# Altium footprint library Diod.PcbLib: 392 footprints (part 8 of 25)
Each footprint in its own frame and in the unit in brackets; x right, y up, seen from the top. Pads: shape width x height; smd on the part's side, far side on the other; paste and mask are expansions set on the pad; w line width, h text height; cw(c..) or ccw(c..) is an arc to the next point about the centre after c.
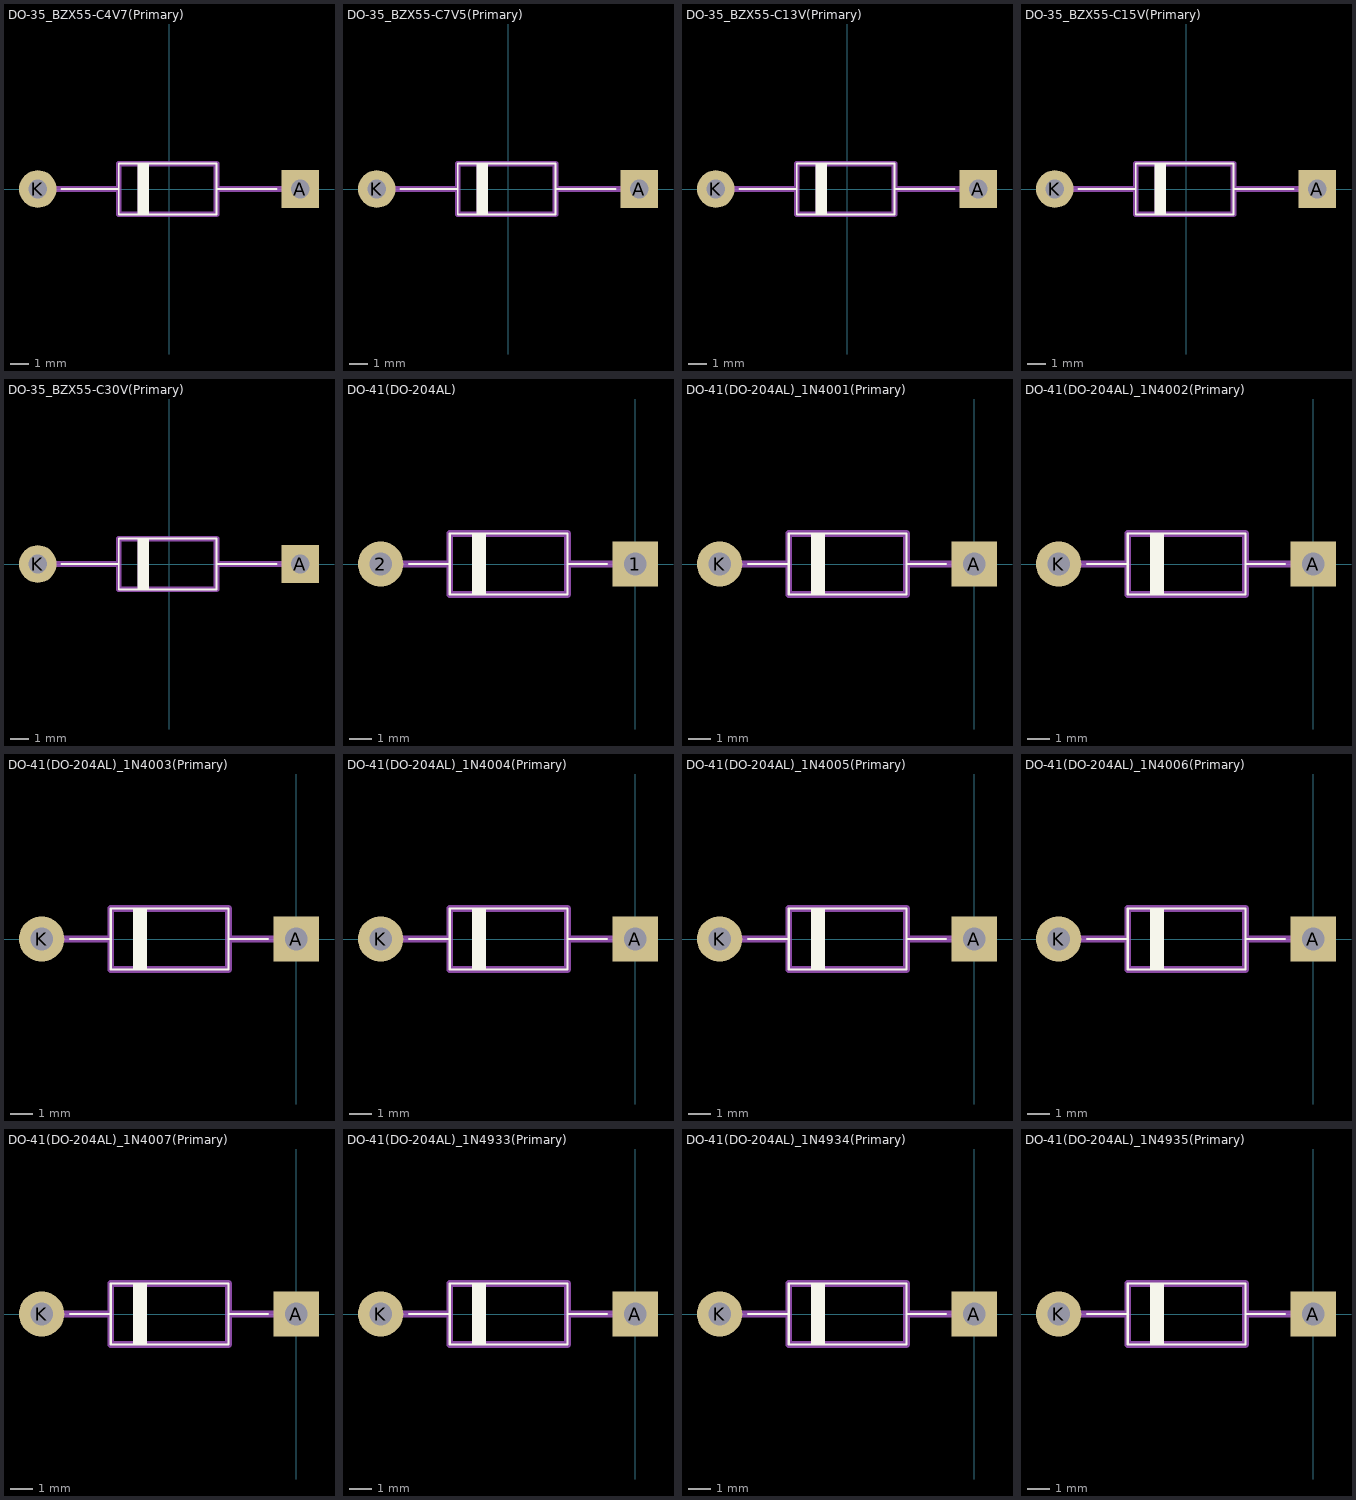
[diagram p7: the footprints below, top view; thin cyan lines are the x and y axes]

## DO-35_BZX55-C4V7(Primary) [mm]
pads (2):
  rect 2x2 hole 1: A(6.985,0)
  round 2 hole 1: K(-6.985,0)
Top Overlay:
  region: -1.675,-1.35 -1.075,-1.35 -1.075,1.35 -1.675,1.35
  lines w0.1: -5.715,0 -2.675,0 ; 5.715,0 2.525,0 ; -2.675,0 -2.675,-1.35 2.525,-1.35 2.525,0 ; -2.675,0 -2.675,1.35 2.525,1.35 2.525,0
Mechanical 1:
  region: -1.675,-1.35 -1.075,-1.35 -1.075,1.35 -1.675,1.35
  lines w0.3: -6.985,0 -2.675,0 ; 6.985,0 2.525,0 ; -2.675,0 -2.675,-1.35 2.525,-1.35 2.525,0 ; -2.675,0 -2.675,1.35 2.525,1.35 2.525,0

## DO-35_BZX55-C7V5(Primary) [mm]
pads (2):
  rect 2x2 hole 1: A(6.985,0)
  round 2 hole 1: K(-6.985,0)
Top Overlay:
  region: -1.675,-1.35 -1.075,-1.35 -1.075,1.35 -1.675,1.35
  lines w0.1: -5.715,0 -2.675,0 ; 5.715,0 2.525,0 ; -2.675,0 -2.675,-1.35 2.525,-1.35 2.525,0 ; -2.675,0 -2.675,1.35 2.525,1.35 2.525,0
Mechanical 1:
  region: -1.675,-1.35 -1.075,-1.35 -1.075,1.35 -1.675,1.35
  lines w0.3: -6.985,0 -2.675,0 ; 6.985,0 2.525,0 ; -2.675,0 -2.675,-1.35 2.525,-1.35 2.525,0 ; -2.675,0 -2.675,1.35 2.525,1.35 2.525,0

## DO-35_BZX55-C13V(Primary) [mm]
pads (2):
  rect 2x2 hole 1: A(6.985,0)
  round 2 hole 1: K(-6.985,0)
Top Overlay:
  region: -1.675,-1.35 -1.075,-1.35 -1.075,1.35 -1.675,1.35
  lines w0.1: -5.715,0 -2.675,0 ; 5.715,0 2.525,0 ; -2.675,0 -2.675,-1.35 2.525,-1.35 2.525,0 ; -2.675,0 -2.675,1.35 2.525,1.35 2.525,0
Mechanical 1:
  region: -1.675,-1.35 -1.075,-1.35 -1.075,1.35 -1.675,1.35
  lines w0.3: -6.985,0 -2.675,0 ; 6.985,0 2.525,0 ; -2.675,0 -2.675,-1.35 2.525,-1.35 2.525,0 ; -2.675,0 -2.675,1.35 2.525,1.35 2.525,0

## DO-35_BZX55-C15V(Primary) [mm]
pads (2):
  rect 2x2 hole 1: A(6.985,0)
  round 2 hole 1: K(-6.985,0)
Top Overlay:
  region: -1.675,-1.35 -1.075,-1.35 -1.075,1.35 -1.675,1.35
  lines w0.1: -5.715,0 -2.675,0 ; 5.715,0 2.525,0 ; -2.675,0 -2.675,-1.35 2.525,-1.35 2.525,0 ; -2.675,0 -2.675,1.35 2.525,1.35 2.525,0
Mechanical 1:
  region: -1.675,-1.35 -1.075,-1.35 -1.075,1.35 -1.675,1.35
  lines w0.3: -6.985,0 -2.675,0 ; 6.985,0 2.525,0 ; -2.675,0 -2.675,-1.35 2.525,-1.35 2.525,0 ; -2.675,0 -2.675,1.35 2.525,1.35 2.525,0

## DO-35_BZX55-C30V(Primary) [mm]
pads (2):
  rect 2x2 hole 1: A(6.985,0)
  round 2 hole 1: K(-6.985,0)
Top Overlay:
  region: -1.675,-1.35 -1.075,-1.35 -1.075,1.35 -1.675,1.35
  lines w0.1: -5.715,0 -2.675,0 ; 5.715,0 2.525,0 ; -2.675,0 -2.675,-1.35 2.525,-1.35 2.525,0 ; -2.675,0 -2.675,1.35 2.525,1.35 2.525,0
Mechanical 1:
  region: -1.675,-1.35 -1.075,-1.35 -1.075,1.35 -1.675,1.35
  lines w0.3: -6.985,0 -2.675,0 ; 6.985,0 2.525,0 ; -2.675,0 -2.675,-1.35 2.525,-1.35 2.525,0 ; -2.675,0 -2.675,1.35 2.525,1.35 2.525,0

## DO-41(DO-204AL) [mm]
pads (2):
  rect 2x2 hole 1: 1(0,0)
  round 2 hole 1: 2(-11.25,0)
Top Overlay:
  region: -7.2,-1.35 -6.6,-1.35 -6.6,1.35 -7.2,1.35
  lines w0.1: -10,0 -8.2,0 ; -1.25,0 -3,0 ; -8.2,0 -8.2,1.35 -3,1.35 -3,0 ; -8.2,0 -8.2,-1.35 -3,-1.35 -3,0
Mechanical 1:
  region: -7.2,-1.35 -6.6,-1.35 -6.6,1.35 -7.2,1.35
  lines w0.3: -11.25,0 -8.2,0 ; 0,0 -3,0 ; -8.2,0 -8.2,1.35 -3,1.35 -3,0 ; -8.2,0 -8.2,-1.35 -3,-1.35 -3,0

## DO-41(DO-204AL)_1N4001(Primary) [mm]
pads (2):
  rect 2x2 hole 1: A(0,0)
  round 2 hole 1: K(-11.25,0)
Top Overlay:
  region: -7.2,-1.35 -6.6,-1.35 -6.6,1.35 -7.2,1.35
  lines w0.1: -10,0 -8.2,0 ; -1.25,0 -3,0 ; -8.2,0 -8.2,1.35 -3,1.35 -3,0 ; -8.2,0 -8.2,-1.35 -3,-1.35 -3,0
Mechanical 1:
  region: -7.2,-1.35 -6.6,-1.35 -6.6,1.35 -7.2,1.35
  lines w0.3: -11.25,0 -8.2,0 ; 0,0 -3,0 ; -8.2,0 -8.2,1.35 -3,1.35 -3,0 ; -8.2,0 -8.2,-1.35 -3,-1.35 -3,0

## DO-41(DO-204AL)_1N4002(Primary) [mm]
pads (2):
  rect 2x2 hole 1: A(0,0)
  round 2 hole 1: K(-11.25,0)
Top Overlay:
  region: -7.2,-1.35 -6.6,-1.35 -6.6,1.35 -7.2,1.35
  lines w0.1: -10,0 -8.2,0 ; -1.25,0 -3,0 ; -8.2,0 -8.2,1.35 -3,1.35 -3,0 ; -8.2,0 -8.2,-1.35 -3,-1.35 -3,0
Mechanical 1:
  region: -7.2,-1.35 -6.6,-1.35 -6.6,1.35 -7.2,1.35
  lines w0.3: -11.25,0 -8.2,0 ; 0,0 -3,0 ; -8.2,0 -8.2,1.35 -3,1.35 -3,0 ; -8.2,0 -8.2,-1.35 -3,-1.35 -3,0

## DO-41(DO-204AL)_1N4003(Primary) [mm]
pads (2):
  rect 2x2 hole 1: A(0,0)
  round 2 hole 1: K(-11.25,0)
Top Overlay:
  region: -7.2,-1.35 -6.6,-1.35 -6.6,1.35 -7.2,1.35
  lines w0.1: -10,0 -8.2,0 ; -1.25,0 -3,0 ; -8.2,0 -8.2,1.35 -3,1.35 -3,0 ; -8.2,0 -8.2,-1.35 -3,-1.35 -3,0
Mechanical 1:
  region: -7.2,-1.35 -6.6,-1.35 -6.6,1.35 -7.2,1.35
  lines w0.3: -11.25,0 -8.2,0 ; 0,0 -3,0 ; -8.2,0 -8.2,1.35 -3,1.35 -3,0 ; -8.2,0 -8.2,-1.35 -3,-1.35 -3,0

## DO-41(DO-204AL)_1N4004(Primary) [mm]
pads (2):
  rect 2x2 hole 1: A(0,0)
  round 2 hole 1: K(-11.25,0)
Top Overlay:
  region: -7.2,-1.35 -6.6,-1.35 -6.6,1.35 -7.2,1.35
  lines w0.1: -10,0 -8.2,0 ; -1.25,0 -3,0 ; -8.2,0 -8.2,1.35 -3,1.35 -3,0 ; -8.2,0 -8.2,-1.35 -3,-1.35 -3,0
Mechanical 1:
  region: -7.2,-1.35 -6.6,-1.35 -6.6,1.35 -7.2,1.35
  lines w0.3: -11.25,0 -8.2,0 ; 0,0 -3,0 ; -8.2,0 -8.2,1.35 -3,1.35 -3,0 ; -8.2,0 -8.2,-1.35 -3,-1.35 -3,0

## DO-41(DO-204AL)_1N4005(Primary) [mm]
pads (2):
  rect 2x2 hole 1: A(0,0)
  round 2 hole 1: K(-11.25,0)
Top Overlay:
  region: -7.2,-1.35 -6.6,-1.35 -6.6,1.35 -7.2,1.35
  lines w0.1: -10,0 -8.2,0 ; -1.25,0 -3,0 ; -8.2,0 -8.2,1.35 -3,1.35 -3,0 ; -8.2,0 -8.2,-1.35 -3,-1.35 -3,0
Mechanical 1:
  region: -7.2,-1.35 -6.6,-1.35 -6.6,1.35 -7.2,1.35
  lines w0.3: -11.25,0 -8.2,0 ; 0,0 -3,0 ; -8.2,0 -8.2,1.35 -3,1.35 -3,0 ; -8.2,0 -8.2,-1.35 -3,-1.35 -3,0

## DO-41(DO-204AL)_1N4006(Primary) [mm]
pads (2):
  rect 2x2 hole 1: A(0,0)
  round 2 hole 1: K(-11.25,0)
Top Overlay:
  region: -7.2,-1.35 -6.6,-1.35 -6.6,1.35 -7.2,1.35
  lines w0.1: -10,0 -8.2,0 ; -1.25,0 -3,0 ; -8.2,0 -8.2,1.35 -3,1.35 -3,0 ; -8.2,0 -8.2,-1.35 -3,-1.35 -3,0
Mechanical 1:
  region: -7.2,-1.35 -6.6,-1.35 -6.6,1.35 -7.2,1.35
  lines w0.3: -11.25,0 -8.2,0 ; 0,0 -3,0 ; -8.2,0 -8.2,1.35 -3,1.35 -3,0 ; -8.2,0 -8.2,-1.35 -3,-1.35 -3,0

## DO-41(DO-204AL)_1N4007(Primary) [mm]
pads (2):
  rect 2x2 hole 1: A(0,0)
  round 2 hole 1: K(-11.25,0)
Top Overlay:
  region: -7.2,-1.35 -6.6,-1.35 -6.6,1.35 -7.2,1.35
  lines w0.1: -10,0 -8.2,0 ; -1.25,0 -3,0 ; -8.2,0 -8.2,1.35 -3,1.35 -3,0 ; -8.2,0 -8.2,-1.35 -3,-1.35 -3,0
Mechanical 1:
  region: -7.2,-1.35 -6.6,-1.35 -6.6,1.35 -7.2,1.35
  lines w0.3: -11.25,0 -8.2,0 ; 0,0 -3,0 ; -8.2,0 -8.2,1.35 -3,1.35 -3,0 ; -8.2,0 -8.2,-1.35 -3,-1.35 -3,0

## DO-41(DO-204AL)_1N4933(Primary) [mm]
pads (2):
  rect 2x2 hole 1: A(0,0)
  round 2 hole 1: K(-11.25,0)
Top Overlay:
  region: -7.2,-1.35 -6.6,-1.35 -6.6,1.35 -7.2,1.35
  lines w0.1: -10,0 -8.2,0 ; -1.25,0 -3,0 ; -8.2,0 -8.2,1.35 -3,1.35 -3,0 ; -8.2,0 -8.2,-1.35 -3,-1.35 -3,0
Mechanical 1:
  region: -7.2,-1.35 -6.6,-1.35 -6.6,1.35 -7.2,1.35
  lines w0.3: -11.25,0 -8.2,0 ; 0,0 -3,0 ; -8.2,0 -8.2,1.35 -3,1.35 -3,0 ; -8.2,0 -8.2,-1.35 -3,-1.35 -3,0

## DO-41(DO-204AL)_1N4934(Primary) [mm]
pads (2):
  rect 2x2 hole 1: A(0,0)
  round 2 hole 1: K(-11.25,0)
Top Overlay:
  region: -7.2,-1.35 -6.6,-1.35 -6.6,1.35 -7.2,1.35
  lines w0.1: -10,0 -8.2,0 ; -1.25,0 -3,0 ; -8.2,0 -8.2,1.35 -3,1.35 -3,0 ; -8.2,0 -8.2,-1.35 -3,-1.35 -3,0
Mechanical 1:
  region: -7.2,-1.35 -6.6,-1.35 -6.6,1.35 -7.2,1.35
  lines w0.3: -11.25,0 -8.2,0 ; 0,0 -3,0 ; -8.2,0 -8.2,1.35 -3,1.35 -3,0 ; -8.2,0 -8.2,-1.35 -3,-1.35 -3,0

## DO-41(DO-204AL)_1N4935(Primary) [mm]
pads (2):
  rect 2x2 hole 1: A(0,0)
  round 2 hole 1: K(-11.25,0)
Top Overlay:
  region: -7.2,-1.35 -6.6,-1.35 -6.6,1.35 -7.2,1.35
  lines w0.1: -10,0 -8.2,0 ; -1.25,0 -3,0 ; -8.2,0 -8.2,1.35 -3,1.35 -3,0 ; -8.2,0 -8.2,-1.35 -3,-1.35 -3,0
Mechanical 1:
  region: -7.2,-1.35 -6.6,-1.35 -6.6,1.35 -7.2,1.35
  lines w0.3: -11.25,0 -8.2,0 ; 0,0 -3,0 ; -8.2,0 -8.2,1.35 -3,1.35 -3,0 ; -8.2,0 -8.2,-1.35 -3,-1.35 -3,0